# Altium footprint library Christmas-2024_TSO-PCB.PcbLib: 27 footprints (part 1 of 2)
Each footprint in its own frame and in the unit in brackets; x right, y up, seen from the top. Pads: shape width x height; smd on the part's side, far side on the other; paste and mask are expansions set on the pad; w line width, h text height; cw(c..) or ccw(c..) is an arc to the next point about the centre after c.
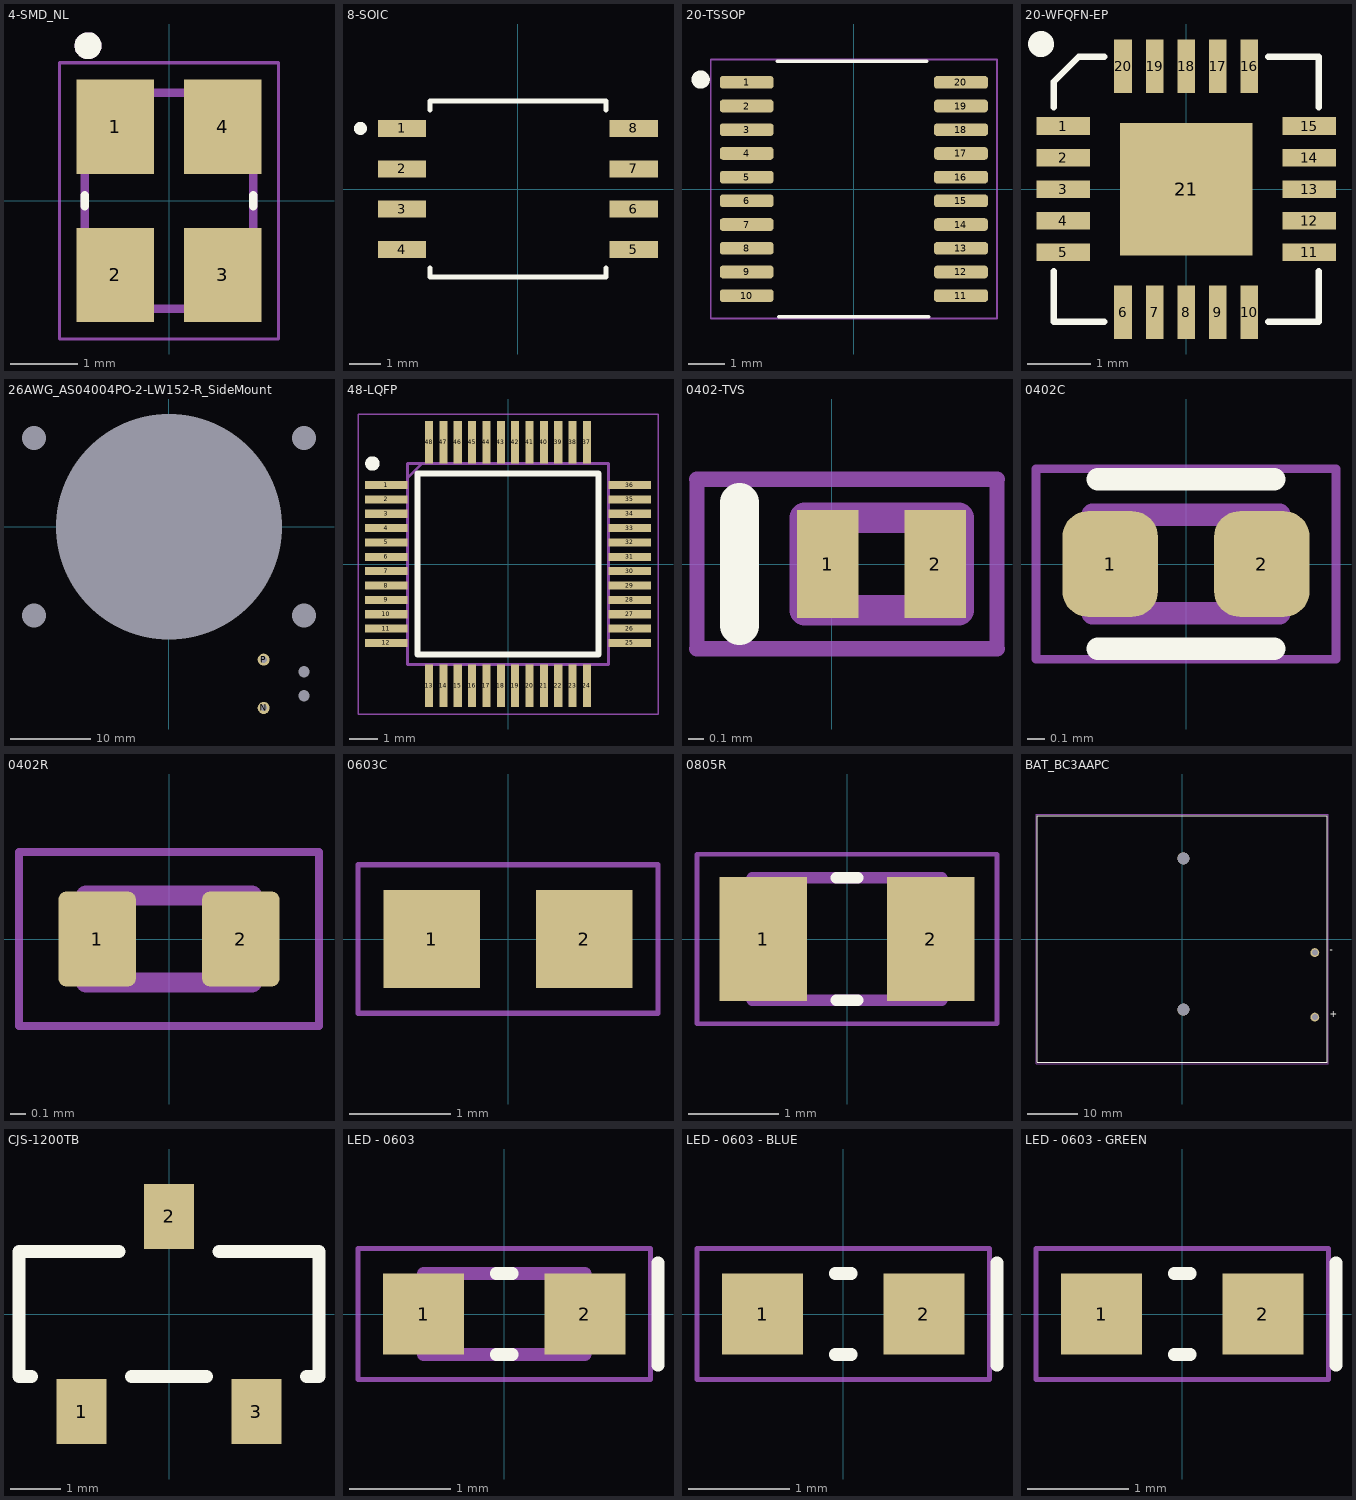
[diagram p0: the footprints below, top view; thin cyan lines are the x and y axes]

## 4-SMD_NL [mm]
height 0.75
pads (4):
  rect 1.15x1.4 smd: 1(-0.8,1.1) 2(-0.8,-1.1) 3(0.8,-1.1) 4(0.8,1.1)
Top Overlay:
  circle w0.2: c-1.2,2.3 r0.1
  lines w0.127: -1.25,-0.08 -1.25,0.08 ; 1.25,-0.08 1.25,0.08
Mechanical 13:
  circle w0.2: c-1.2,2.3 r0.1
  lines w0.127: -1.25,-1.6 1.25,-1.6 1.25,1.6 -1.25,1.6 -1.25,-1.6
Mechanical 15:
  lines w0.05: -1.625,-2.05 1.625,-2.05 1.625,2.05 -1.625,2.05 -1.625,-2.05
3D body "step_temp.STEP": height 0.75, standoff 0, extent -1.25,-1.6 1.25,1.6

## 8-SOIC [mil]
pads (8):
  rect 60x21 smd paste+0: 1(-143.5,75) 2(-143.5,25) 3(-143.5,-25) 4(-143.5,-75) 5(143.5,-75) 6(143.5,-25) 7(143.5,25) 8(143.5,75)
Top Overlay:
  circle w10: c-195,75 r3
  lines w6: -109,-97.8 -109,-109 109,-109 109,-97.8 ; -109,97.8 -109,109 109,109 109,97.8
3D body "W25Q32JVSSIQ.step": height 85.04, standoff 0, extent -155.51,-103.94 155.51,103.94

## 20-TSSOP [mm]
pads (20):
  rrect50% 1.475x0.35 smd mask+0.051: 1(-2.938,2.925) 2(-2.938,2.275) 3(-2.938,1.625) 4(-2.938,0.975) 5(-2.938,0.325) 6(-2.938,-0.325) 7(-2.938,-0.975) 8(-2.938,-1.625) 9(-2.938,-2.275) 10(-2.938,-2.925) 11(2.938,-2.925) 12(2.938,-2.275) 13(2.938,-1.625) 14(2.938,-0.975) 15(2.938,-0.325) 16(2.938,0.325) 17(2.938,0.975) 18(2.938,1.625) 19(2.938,2.275) 20(2.938,2.925)
Top Overlay:
  circle w0.3: c-4.2,3 r0.1
  lines w0.1: -2.1,3.5 2,3.5 ; -2.05,-3.5 2.05,-3.5
Mechanical 15:
  lines w0.05: -3.925,-3.55 -3.925,3.55 3.925,3.55 3.925,-3.55 -3.925,-3.55
3D body "MSP430G2353IPW20-TSSOP.stp": height 1.13, standoff 0, extent -3.2,-3.25 3.2,3.25

## 20-WFQFN-EP [mm]
pads (21):
  rect 0.85x0.28 smd mask+0.051: 1(-1.95,1) 2(-1.95,0.5) 3(-1.95,0) 4(-1.95,-0.5) 5(-1.95,-1) 11(1.95,-1) 12(1.95,-0.5) 13(1.95,0) 14(1.95,0.5) 15(1.95,1)
  rect 0.28x0.85 smd mask+0.051: 6(-1,-1.95) 7(-0.5,-1.95) 8(0,-1.95) 9(0.5,-1.95) 10(1,-1.95) 16(1,1.95) 17(0.5,1.95) 18(0,1.95) 19(-0.5,1.95) 20(-1,1.95)
  rect 2.1x2.1 smd mask+0.051: 21(0,0)
Top Overlay:
  circle w0.25: c-2.3,2.3 r0.08
  lines w0.1: -2.1,-1.3 -2.1,-2.1 -1.3,-2.1 ; -1.3,2.1 -1.7,2.1 -2.1,1.7 ; 1.3,-2.1 2.1,-2.1 2.1,-1.3 ; 1.3,2.1 2.1,2.1 2.1,1.3 ; -2.1,1.7 -2.1,1.3 -2.1,1.7
3D body "NAU8315YG.stp": height 0.8, standoff 0, extent -2.05,-2.05 2.05,2.05

## 26AWG_AS04004PO-2-LW152-R_SideMount [mm]
pads (9):
  round 0 hole 3 unplated: 1(-16.75,-11) 1(-16.75,11) 1(16.75,-11) 1(16.75,11)
  round 0 hole 28 unplated: 1(0,0)
  round 0 hole 1.4 unplated: H(16.75,-21) H(16.75,-18)
  round 1.5 hole 0.8: N(11.75,-22.5) P(11.75,-16.5)
3D body "speaker model v10.step": height 11.7, standoff -3.7, extent -20,-22.716 39.195,14.25

## 48-LQFP [mm]
pads (48):
  rect 1.475x0.28 smd mask+0.03: 1(-4.238,2.75) 2(-4.238,2.25) 3(-4.238,1.75) 4(-4.238,1.25) 5(-4.238,0.75) 6(-4.238,0.25) 7(-4.238,-0.25) 8(-4.238,-0.75) 9(-4.238,-1.25) 10(-4.238,-1.75) 11(-4.238,-2.25) 12(-4.238,-2.75) 25(4.238,-2.75) 26(4.238,-2.25) 27(4.238,-1.75) 28(4.238,-1.25) 29(4.238,-0.75) 30(4.238,-0.25) 31(4.238,0.25) 32(4.238,0.75) 33(4.238,1.25) 34(4.238,1.75) 35(4.238,2.25) 36(4.238,2.75)
  rect 0.28x1.475 smd mask+0.03: 13(-2.75,-4.238) 14(-2.25,-4.238) 15(-1.75,-4.238) 16(-1.25,-4.238) 17(-0.75,-4.238) 18(-0.25,-4.238) 19(0.25,-4.238) 20(0.75,-4.238) 21(1.25,-4.238) 22(1.75,-4.238) 23(2.25,-4.238) 24(2.75,-4.238) 37(2.75,4.238) 38(2.25,4.238) 39(1.75,4.238) 40(1.25,4.238) 41(0.75,4.238) 42(0.25,4.238) 43(-0.25,4.238) 44(-0.75,4.238) 45(-1.25,4.238) 46(-1.75,4.238) 47(-2.25,4.238) 48(-2.75,4.238)
Top Overlay:
  circle w0.25: c-4.725,3.5 r0.125
  lines w0.2: -3.15,-3.15 3.15,-3.15 3.15,3.15 -3.15,3.15 -3.15,-3.15
Mechanical 15:
  lines w0.1: -3.5,3 -3,3.5 ; -3.5,-3.5 3.5,-3.5 3.5,3.5 -3.5,3.5 -3.5,-3.5
Mechanical 20:
  lines w0.05: -5.225,-5.225 5.225,-5.225 5.225,5.225 -5.225,5.225 -5.225,-5.225
3D body "STM32G031C6T6.stp": height 1.6, standoff 0, extent -4.5,-4.5 4.5,4.5

## 0402-TVS [mm]
pads (2):
  rect 0.4x0.7 smd mask+0.076: 1(-0.025,0) 2(0.675,0)
Top Overlay:
  lines w0.254: -0.6,-0.4 -0.6,0.4
Mechanical 13:
  lines w0.2: -0.175,-0.3 0.825,-0.3 0.825,0.3 -0.175,0.3 -0.175,-0.3
Mechanical 15:
  lines w0.1: -0.875,-0.55 -0.875,-0.275 -0.875,0.275 -0.875,0.55 ; 1.075,-0.55 1.075,0.55
  lines w0.102: -0.875,-0.55 1.075,-0.55 ; -0.875,0.55 1.075,0.55
3D body "DESD3V3E1BL-7B.stp": height 0.53, standoff 0, extent -0.177,-0.3 0.823,0.3

## 0402C [mm] "0402 SMT Capacitor"
pads (2):
  rrect53% 0.54x0.6 smd: 1(-0.43,0) 2(0.43,0)
Top Overlay:
  lines w0.127: -0.5,-0.48 0.5,-0.48 ; -0.5,0.48 0.5,0.48
Mechanical 13:
  lines w0.127: -0.53,-0.28 -0.53,0.28 0.53,0.28 0.53,-0.28 -0.53,-0.28
Mechanical 15:
  lines w0.05: -0.85,-0.54 -0.85,0.54 0.85,0.54 0.85,-0.54 -0.85,-0.54
3D body "C0402.STEP": height 0.5, standoff 0, extent -0.5,-0.254 0.5,0.246

## 0402R [mm] "0402 SMT Resistor"
pads (2):
  rrect20% 0.49x0.6 smd: 1(-0.455,0) 2(0.455,0)
Mechanical 13:
  lines w0.127: -0.525,-0.275 0.525,-0.275 0.525,0.275 -0.525,0.275 -0.525,-0.275
Mechanical 15:
  lines w0.05: -0.95,-0.55 0.95,-0.55 0.95,0.55 -0.95,0.55 -0.95,-0.55
3D body "Resistor 0402.step": height 0.35, standoff 0, extent -0.75,-0.254 0.75,0.246

## 0603C [mm]
pads (2):
  rect 0.96x0.97 smd: 1(-0.755,0) 2(0.755,0)
Mechanical 15:
  lines w0.05: -1.485,-0.735 1.485,-0.735 1.485,0.735 -1.485,0.735 -1.485,-0.735
3D body "GRM188R61A106ME69D.step": height 0.8, standoff 0, extent -0.8,-0.475 0.8,0.475

## 0805R [mm]
pads (2):
  rect 0.97x1.38 smd: 1(-0.93,0) 2(0.93,0)
Top Overlay:
  lines w0.127: -0.12,-0.68 0.12,-0.68 ; -0.12,0.68 0.12,0.68
Mechanical 13:
  lines w0.127: -1.05,-0.68 1.05,-0.68 1.05,0.68 -1.05,0.68 -1.05,-0.68
Mechanical 15:
  lines w0.05: -1.665,-0.94 1.665,-0.94 1.665,0.94 -1.665,0.94 -1.665,-0.94
3D body "ESR10EZPJ5R1.step": height 0.65, standoff 0, extent -1.051,-0.635 0.949,0.615

## BAT_BC3AAPC [mm]
pads (4):
  round 1.755 hole 1.17: NEG(26.32,-2.7) POS(26.32,-15.5)
  round 2.37 hole 2.37 unplated: ""(0.25,-14) ""(0.25,16)
Top Overlay:
  lines w0.127: -28.75,-24.5 -28.75,24.5 28.75,24.5 28.75,-24.5 -28.75,-24.5
  text "+" at 29.25,-15.5 h1.27
  text "-" at 29.25,-2.7 h1.27
Mechanical 15:
  lines w0.05: -29,-24.75 -29,24.75 29,24.75 29,-24.75 -29,-24.75
3D body "BC3AAPC.step": height 16.5, standoff -9.2, extent -28.75,-24.501 28.75,24.499

## CJS-1200TB [mm]
pads (3):
  rect 1x1.3 smd: 1(-1.75,-1.95) 2(0,1.95) 3(1.75,-1.95)
Top Overlay:
  lines w0.254: -2.75,-1.25 -3,-1.25 -3,1.25 -1,1.25 ; -0.75,-1.25 0.75,-1.25 ; 1,1.25 3,1.25 3,-1.25 2.75,-1.25
3D body "CJS-1200TB.stp": height 2.47, standoff -0.05, extent -2.7,-2.1 2.7,2.1

## LED - 0603 [mm]
pads (2):
  rect 0.8x0.8 smd: 1(-0.8,0) 2(0.8,0)
Top Overlay:
  lines w0.127: -0.08,-0.4 0.08,-0.4 ; -0.08,0.4 0.08,0.4 ; 1.524,-0.508 1.524,0.508
Mechanical 13:
  lines w0.127: -0.8,-0.4 -0.8,0.4 0.8,0.4 0.8,-0.4 -0.8,-0.4
Mechanical 15:
  lines w0.05: -1.45,-0.65 -1.45,0.65 1.45,0.65 1.45,-0.65 -1.45,-0.65
3D body "WL-SMCW SMT LED WURTH ELEKTRONIK 0603.step": height 0.7, standoff 0, extent -0.8,-0.35 0.8,0.35

## LED - 0603 - BLUE [mm]
pads (2):
  rect 0.8x0.8 smd: 1(-0.8,0) 2(0.8,0)
Top Overlay:
  lines w0.127: -0.08,-0.4 0.08,-0.4 ; -0.08,0.4 0.08,0.4 ; 1.524,-0.508 1.524,0.508
Mechanical 15:
  lines w0.05: -1.45,-0.65 -1.45,0.65 1.45,0.65 1.45,-0.65 -1.45,-0.65
3D body "LED-0603-BLUE.step": height 0.7, standoff 0, extent -0.8,-0.4 0.8,0.4

## LED - 0603 - GREEN [mm]
pads (2):
  rect 0.8x0.8 smd: 1(-0.8,0) 2(0.8,0)
Top Overlay:
  lines w0.127: -0.08,-0.4 0.08,-0.4 ; -0.08,0.4 0.08,0.4 ; 1.524,-0.508 1.524,0.508
Mechanical 15:
  lines w0.05: -1.45,-0.65 -1.45,0.65 1.45,0.65 1.45,-0.65 -1.45,-0.65
3D body "LED-0603-YELLOW-GREEN.step": height 0.7, standoff 0, extent -0.8,-0.4 0.8,0.4